# Altium footprint library LM2596_MODULE.PCBLIB: 1 footprints
Each footprint in its own frame and in the unit in brackets; x right, y up, seen from the top. Pads: shape width x height; smd on the part's side, far side on the other; paste and mask are expansions set on the pad; w line width, h text height; cw(c..) or ccw(c..) is an arc to the next point about the centre after c.
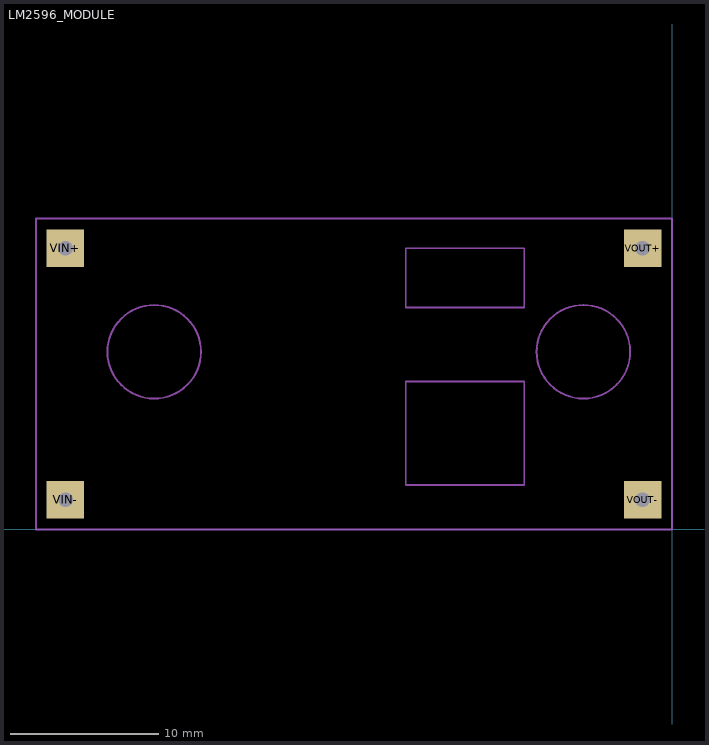
[diagram p0: the footprint, top view; thin cyan lines are the x and y axes]

## LM2596_MODULE [mm]
pads (4):
  rect 2.54x2.54 / inner round 2.347 / far side rect 2.54x2.54 hole 1: VIN+(-41,19) VIN-(-41,2) VOUT+(-2,19) VOUT-(-2,2)
tPlace:
  circle w0.127: c-35,12 r3.162
  circle w0.127: c-6,12 r3.162
  lines w0.127: -43,0 -43,21 0,21 0,0 -43,0 ; -18,3 -18,10 -10,10 -10,3 -18,3 ; -18,15 -18,19 -10,19 -10,15 -18,15